# Altium schematic symbol library IntLib.SchLib: 161 symbols (part 2 of 3)
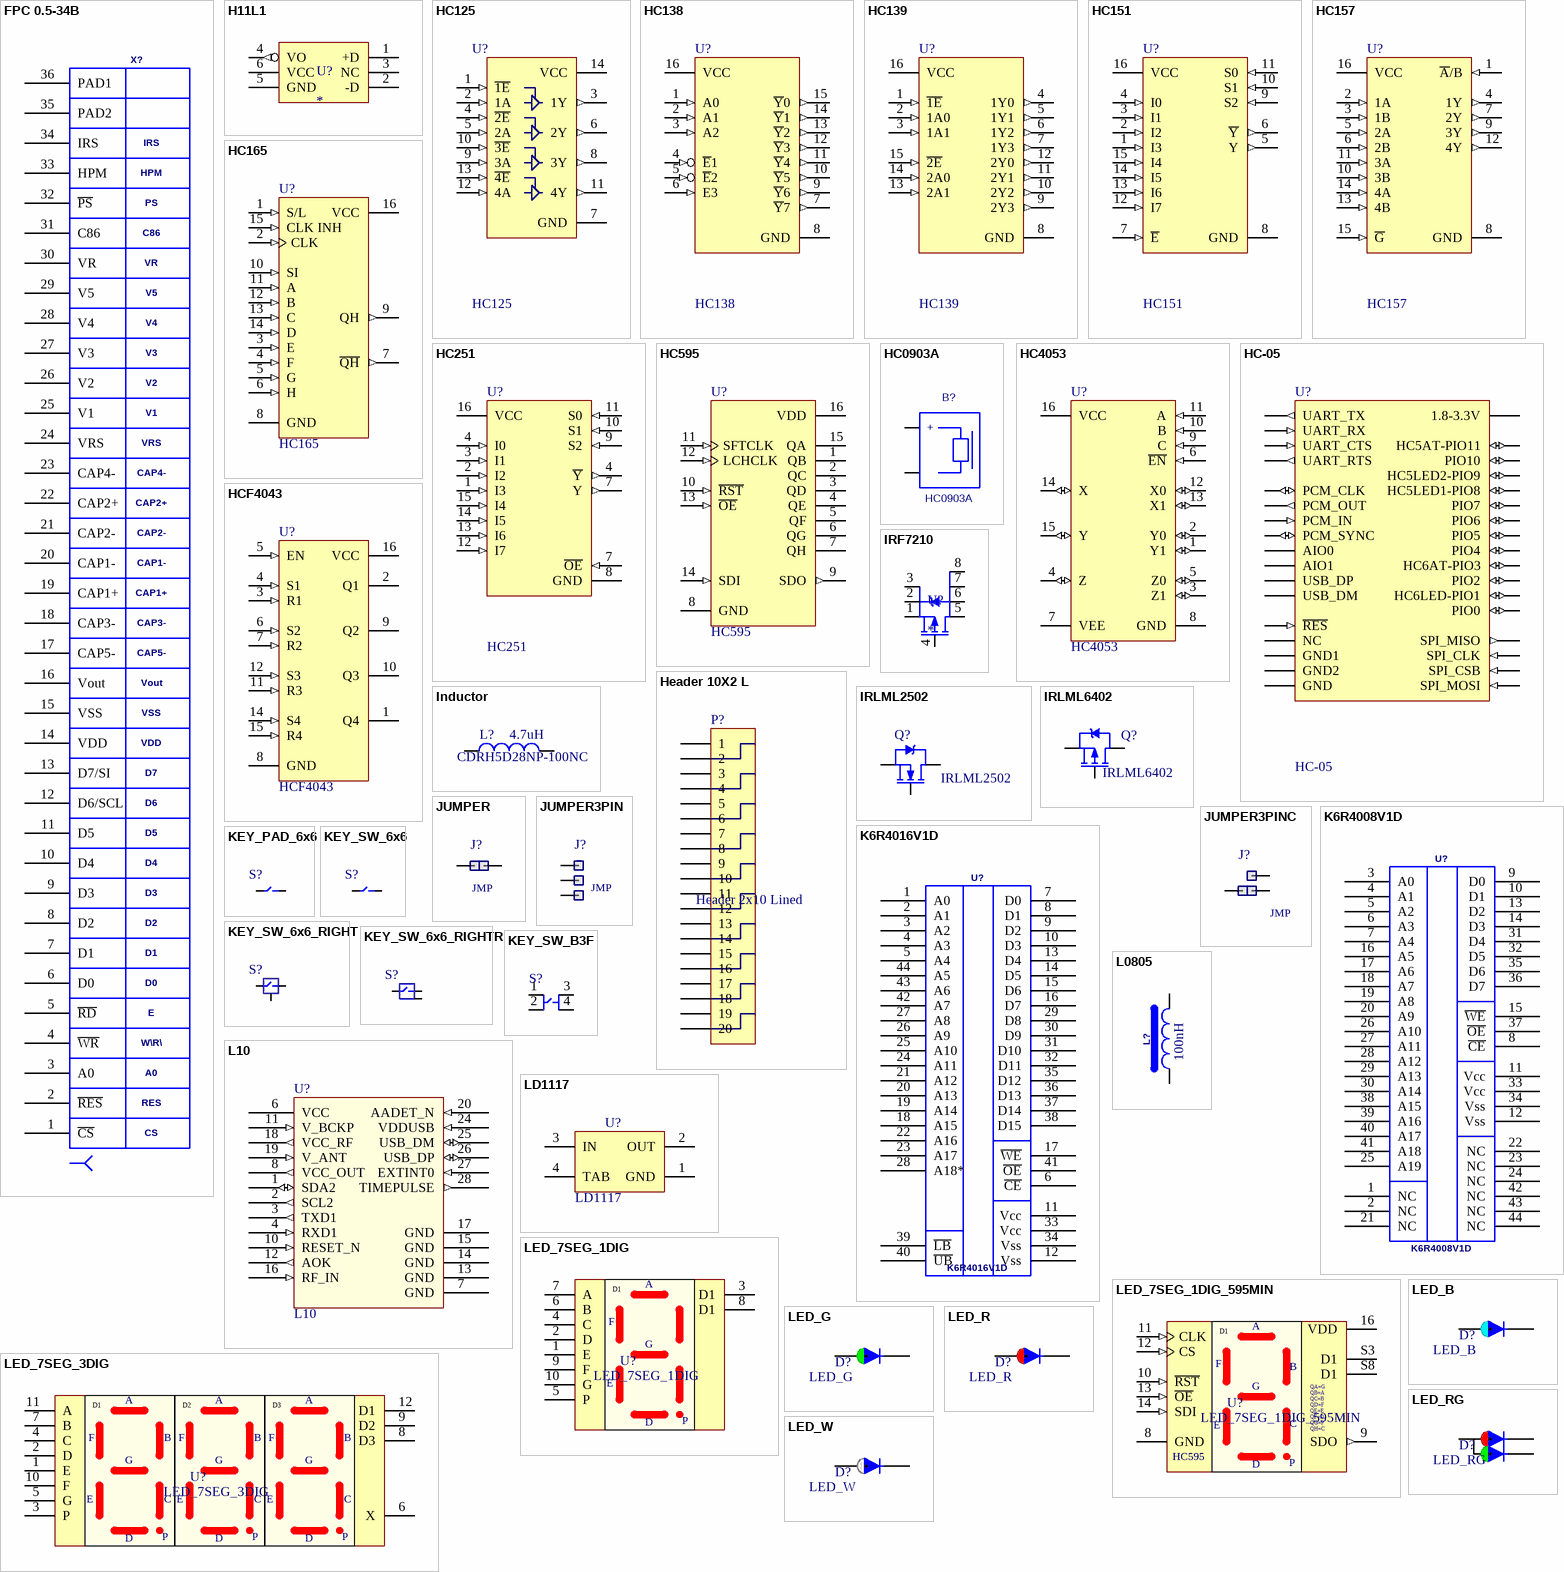
[diagram p9: symbols FPC 0.5-34B to LED_W]

## HC125
designator U?
Quad buffer/line driver 3-state; Published: 8-Jun-2000; LatestRevisionDate: 13-Apr-2006; LatestRevisionNote: IPC-7351 Footprint Added.; DatasheetVersion: Oct-1993; PackageVersion: May-1998; PackageReference: SO16; Publisher: Altium Limited; PackageDescription: 16-Pin Small Outline Integrated Circuit 1.27 mm Pitch; Code_IPC: SOIC127P600-16; ComponentLink1Description: Manufacturer Link; ComponentLink1URL: http://www.st.com/; ComponentLink2Description: Datasheet; ComponentLink2URL: http://www.st.com/stonline/products/literature/ds/7731/m74hc4053.pdf
footprint SO14-150
pins: 1 ~{1E} (in), 2 1A (in), 3 1Y (out), 4 ~{2E} (in), 5 2A (in), 6 2Y (out), 7 GND (power), 8 3Y (out), 9 3A (in), 10 ~{3E} (in), 11 4Y (out), 12 4A (in), 13 ~{4E} (in), 14 VCC (power)

## HC138
designator U?
Analog Multiplexer/Demultiplexer Triple 2-Channel; Published: 8-Jun-2000; LatestRevisionDate: 13-Apr-2006; LatestRevisionNote: IPC-7351 Footprint Added.; DatasheetVersion: Oct-1993; PackageVersion: May-1998; PackageReference: SO16; Publisher: Altium Limited; PackageDescription: 16-Pin Small Outline Integrated Circuit 1.27 mm Pitch; Code_IPC: SOIC127P600-16; ComponentLink1Description: Manufacturer Link; ComponentLink1URL: http://www.st.com/; ComponentLink2Description: Datasheet; ComponentLink2URL: http://www.st.com/stonline/products/literature/ds/7731/m74hc4053.pdf
footprint SO16-150
pins: 1 A0 (in), 2 A1 (in), 3 A2 (in), 4 ~{E}1 (in), 5 ~{E}2 (in), 6 E3 (in), 7 ~{Y}7 (out), 8 GND (power), 9 ~{Y}6 (out), 10 ~{Y}5 (out), 11 ~{Y}4 (out), 12 ~{Y}3 (out), 13 ~{Y}2 (out), 14 ~{Y}1 (out), 15 ~{Y}0 (out), 16 VCC (power)

## HC139
designator U?
Analog Multiplexer/Demultiplexer Triple 2-Channel; Published: 8-Jun-2000; LatestRevisionDate: 13-Apr-2006; LatestRevisionNote: IPC-7351 Footprint Added.; DatasheetVersion: Oct-1993; PackageVersion: May-1998; PackageReference: SO16; Publisher: Altium Limited; PackageDescription: 16-Pin Small Outline Integrated Circuit 1.27 mm Pitch; Code_IPC: SOIC127P600-16; ComponentLink1Description: Manufacturer Link; ComponentLink1URL: http://www.st.com/; ComponentLink2Description: Datasheet; ComponentLink2URL: http://www.st.com/stonline/products/literature/ds/7731/m74hc4053.pdf
footprint SO16-150
pins: 1 ~{1E} (in), 2 1A0 (in), 3 1A1 (in), 4 1Y0 (out), 5 1Y1 (out), 6 1Y2 (out), 7 1Y3 (out), 8 GND (power), 9 2Y3 (out), 10 2Y2 (out), 11 2Y1 (out), 12 2Y0 (out), 13 2A1 (in), 14 2A0 (in), 15 ~{2E} (in), 16 VCC (power)

## HC151
designator U?
Selector Multiplexer 2-Channel; Published: 8-Jun-2000; LatestRevisionDate: 13-Apr-2006; LatestRevisionNote: IPC-7351 Footprint Added.; DatasheetVersion: Oct-1993; PackageVersion: May-1998; PackageReference: SO16; Publisher: Altium Limited; PackageDescription: 16-Pin Small Outline Integrated Circuit 1.27 mm Pitch; Code_IPC: SOIC127P600-16; ComponentLink1Description: Manufacturer Link; ComponentLink1URL: http://www.st.com/; ComponentLink2Description: Datasheet; ComponentLink2URL: http://www.st.com/stonline/products/literature/ds/7731/m74hc4053.pdf
footprint SO16-150
pins: 1 I3 (in), 2 I2 (in), 3 I1 (in), 4 I0 (in), 5 Y (out), 6 ~{Y} (out), 7 ~{E} (in), 8 GND (power), 9 S2 (in), 10 S1 (in), 11 S0 (in), 12 I7 (in), 13 I6 (in), 14 I5 (in), 15 I4 (in), 16 VCC (power)

## HC157
designator U?
Selector Multiplexer 2-Channel; Published: 8-Jun-2000; LatestRevisionDate: 13-Apr-2006; LatestRevisionNote: IPC-7351 Footprint Added.; DatasheetVersion: Oct-1993; PackageVersion: May-1998; PackageReference: SO16; Publisher: Altium Limited; PackageDescription: 16-Pin Small Outline Integrated Circuit 1.27 mm Pitch; Code_IPC: SOIC127P600-16; ComponentLink1Description: Manufacturer Link; ComponentLink1URL: http://www.st.com/; ComponentLink2Description: Datasheet; ComponentLink2URL: http://www.st.com/stonline/products/literature/ds/7731/m74hc4053.pdf
footprint SO16-150
pins: 1 ~{A}/B (in), 2 1A (in), 3 1B (in), 4 1Y (out), 5 2A (in), 6 2B (in), 7 2Y (out), 8 GND (power), 9 3Y (out), 10 3B (in), 11 3A (in), 12 4Y (out), 13 4B (in), 14 4A (in), 15 ~{G} (in), 16 VCC (power)

## HC165
designator U?
8-Bit Parallel-Load Shift Register; Published: 8-Jun-2000; LatestRevisionDate: 13-Apr-2006; LatestRevisionNote: IPC-7351 Footprint Added.; DatasheetVersion: May-1997; PackageVersion: Jan-1998; PackageReference: D016; Publisher: Altium Limited; PackageDescription: 16-Pin Small Outline Integrated Circuit 1.27 mm Pitch; Code_IPC: SOIC127P600-16; ComponentLink1Description: Manufacturer Link; ComponentLink1URL: http://www.ti.com/; ComponentLink2Description: Datasheet; ComponentLink2URL: http://www-s.ti.com/sc/ds/sn74hc165.pdf
footprint SO16-150
pins: 1 S/L (in), 2 CLK (in), 3 E (in), 4 F (in), 5 G (in), 6 H (in), 7 ~{QH} (out), 8 GND (power), 9 QH (out), 10 SI (in), 11 A (in), 12 B (in), 13 C (in), 14 D (in), 15 CLK INH (in), 16 VCC (power)

## HC251
designator U?
8-Input Multiplexer with 3-state; Published: 8-Jun-2000; LatestRevisionDate: 13-Apr-2006; LatestRevisionNote: IPC-7351 Footprint Added.; DatasheetVersion: Oct-1993; PackageVersion: May-1998; PackageReference: SO16; Publisher: Altium Limited; PackageDescription: 16-Pin Small Outline Integrated Circuit 1.27 mm Pitch; Code_IPC: SOIC127P600-16; ComponentLink1Description: Manufacturer Link; ComponentLink1URL: http://www.st.com/; ComponentLink2Description: Datasheet; ComponentLink2URL: http://www.st.com/stonline/products/literature/ds/7731/m74hc4053.pdf
footprint SO16-150
pins: 1 I3 (in), 2 I2 (in), 3 I1 (in), 4 ~{Y} (out), 4 I0 (in), 7 Y (out), 7 ~{OE} (in), 8 GND (power), 9 S2 (in), 10 S1 (in), 11 S0 (in), 12 I7 (in), 13 I6 (in), 14 I5 (in), 15 I4 (in), 16 VCC (power)

## HC595
designator U?
8-Bit Serial-Input/Serial or Prallel-Output Shift Register with Latched 3-State Outputs; Published: 15-Apr-2002; LatestRevisionDate: 13-Apr-2006; LatestRevisionNote: IPC-7351 Footprint Added.; DatasheetVersion: Mar-2000; PackageVersion: Oct-1999; PackageReference: 751B-05; Publisher: Altium Limited; PackageDescription: 16-Pin Small Outline Integrated Circuit 1.27 mm Pitch; Code_JEDEC: MS-012-AC; Code_IPC: SOIC127P600-16; ComponentLink1Description: Manufacturer Link; ComponentLink1URL: http://www.onsemi.com/; ComponentLink2Description: Datasheet; ComponentLink2URL: http://www.onsemi.com/pub/Collateral/MC74HC595A-D.PDF
footprint SO16-150
pins: 1 QB (hiz), 2 QC (hiz), 3 QD (hiz), 4 QE (hiz), 5 QF (hiz), 6 QG (hiz), 7 QH (hiz), 8 GND (power), 9 SDO (out), 10 ~{RST} (in), 11 SFTCLK (in), 12 LCHCLK (in), 13 ~{OE} (in), 14 SDI (in), 15 QA (hiz), 16 VDD (power)

## HC0903A
designator B?
Value: *
footprint HC09A (Footprint not found)
pins: 1, 2
text: +

## HC4053
designator U?
Analog Multiplexer/Demultiplexer Triple 2-Channel; Published: 8-Jun-2000; LatestRevisionDate: 13-Apr-2006; LatestRevisionNote: IPC-7351 Footprint Added.; DatasheetVersion: Oct-1993; PackageVersion: May-1998; PackageReference: SO16; Publisher: Altium Limited; PackageDescription: 16-Pin Small Outline Integrated Circuit 1.27 mm Pitch; Code_IPC: SOIC127P600-16; ComponentLink1Description: Manufacturer Link; ComponentLink1URL: http://www.st.com/; ComponentLink2Description: Datasheet; ComponentLink2URL: http://www.st.com/stonline/products/literature/ds/7731/m74hc4053.pdf
footprint SO16-150
pins: 1 Y1 (io), 2 Y0 (io), 3 Z1 (io), 4 Z (io), 5 Z0 (io), 6 ~{EN} (in), 7 VEE (power), 8 GND (power), 9 C (in), 10 B (in), 11 A (in), 12 X0 (io), 13 X1 (io), 14 X (io), 15 Y (io), 16 VCC (power)

## HC-05
designator U?
footprint HC-05 (BT HC-05 WAVESEN)
pins: 3.3V 1.8-3.3V, AIO0, AIO1, CLK SPI_CLK (in), CSB SPI_CSB (in), CTS UART_CTS (in), GND, GND1, GND2, MISO SPI_MISO (out), MOSI SPI_MOSI (in), NC, PCM_CLK (io), PCM_IN (in), PCM_OUT (out), PCM_SYNC (io), PIO0 (io), PIO1 HC6LED-PIO1 (io), PIO2 (io), PIO3 HC6AT-PIO3 (io), PIO4 (io), PIO5 (io), PIO6 (io), PIO7 (io), PIO8 HC5LED1-PIO8 (io), PIO9 HC5LED2-PIO9 (io), PIO10 (io), PIO11 HC5AT-PIO11 (io), RES ~{RES} (in), RTS UART_RTS (out), RX UART_RX (in), TX UART_TX (out), USB_DM, USB_DP

## HCF4043
designator U?
Quad 3-State R-S Latch; Note: Pin 13 is not connected and not drawn.; Published: 8-Jun-2000; LatestRevisionDate: 13-Apr-2006; LatestRevisionNote: IPC-7351 Footprint Added.; DatasheetVersion: Jun-1989; PackageVersion: May-1998; PackageReference: SO16; Publisher: Altium Limited; PackageDescription: 16-Pin Small Outline Integrated Circuit 1.27 mm Pitch; Code_IPC: SOIC127P600-16; ComponentLink1Description: Manufacturer Link; ComponentLink1URL: http://www.st.com/
footprint SO16-150
simulation model HCF4043 (SIMCODE)
pins: 1 Q4 (hiz), 2 Q1 (hiz), 3 R1 (in), 4 S1 (in), 5 EN (in), 6 S2 (in), 7 R2 (in), 8 GND (power), 9 Q2 (hiz), 10 Q3 (hiz), 11 R3 (in), 12 S3 (in), 14 S4 (in), 15 R4 (in), 16 VCC (power)

## Header 10X2 L
designator P?, comment Header 2x10 Lined
Header, 10-Pin, Dual row; LatestRevisionDate: 17-Jul-2002; LatestRevisionNote: Re-released for DXP Platform.; Publisher: Altium Limited
footprint HDR2X10 (Connector; Header; 10x2 Position)
signal-integrity model Connector
pins: 1, 2, 3, 4, 5, 6, 7, 8, 9, 10, 11, 12, 13, 14, 15, 16, 17, 18, 19, 20

## Inductor
designator L?  value 4.7uH  Type0: CDRH5D28NP-100NC  (hidden comment: Inductor)
Code_IEC: 1005; Published: 8-Jun-2000; LatestRevisionDate: 29-May-2009; LatestRevisionNote: IPC-7351 Footprint Added.; PackageReference: 0402-A; Publisher: Altium Limited; PackageDescription: Chip Inductor; Code_JEITA: 0402
footprint LQH3NP (Murata)
footprint INDC1608L (Chip Inductor, Body 1.6x0.8mm, IPC High Density)
footprint INDC2012L (Chip Inductor, Body 2.0x1.2mm, IPC High Density)
footprint INDC0603L (Chip Inductor, Body 0.6x0.3mm, IPC High Density)
footprint INDC3216AL (Chip Inductor, Body 3.2x1.6mm, IPC High Density)
footprint INDC4532L (Chip Inductor, Body 4.5x3.2mm, IPC High Density)
simulation model INDUCTOR (Inductor)
signal-integrity model Inductor
footprint INDC5750M (Chip Inductor, Body 5.7x5.0mm, IPC Low Density)
footprint SCB0704
footprint CDRH74 (CDRH74 or SCB0704)
footprint CDRH5D28
pins: 1, 2

## IRF7210
designator U?
Mosfet
footprint SO8-150
pins: 1 S, 2 S, 3 S, 4 G, 5 D, 6 D, 7 D, 8 D

## IRLML2502
designator Q?
HEXFET Power MOSFET; Published: 8-Jun-2000; LatestRevisionDate: 17-Jul-2002; LatestRevisionNote: Re-released for DXP Platform.; DatasheetVersion: Aug-1997; PackageReference: SOT-23; Publisher: Altium Limited; PackageDescription: SOT-23; 3 Leads; Body 3.1 x 2.5 mm, inc. leads (LxW max); ComponentLink1Description: Manufacturer Link; ComponentLink1URL: http://www.irf.com/; ComponentLink2Description: Datasheet; ComponentLink2URL: http://www.irf.com/product-info/datasheets/data/irlml2402.pdf
footprint SOT23-1 (SOT23, 3-Leads, Body 2.9x1.3mm, Pitch 0.95mm, Lead Span 2.5mm)
simulation model IRLML2402 (SUBCKT)
pins: 1 G, 2 S, 3 D

## IRLML6402
designator Q?
HEXFET Power MOSFET; Published: 17-Sep-2003; DatasheetVersion: 2-Jul-2001; PackageVersion: Jul-2001; PackageReference: Micro3; Publisher: Altium Limited; PackageDescription: SOT-23; 3 Leads; Body 3.0 x 2.5 mm, inc. leads (LxW max); ComponentLink1Description: Manufacturer Link; ComponentLink1URL: http://www.irf.com/; ComponentLink2Description: Datasheet; ComponentLink2URL: http://www.irf.com/product-info/datasheets/data/IRLML6401.pdf
footprint SOT23-1 (SOT23, 3-Leads, Body 2.9x1.3mm, Pitch 0.95mm, Lead Span 2.5mm)
pins: 1 G, 2 S, 3 D

## JUMPER
designator J?  value JMP  (hidden comment: JUMPER)
Manufacturer: Generic Components; Class I: Oscillator; Class II: Crystal Oscillator; Published: 8-Jun-2000; Revision: July-2002: Re-released for DXP Platform.; Publisher: Altium Limited
footprint HDR1X2 (Footprint not found)
pins: 1 OSC1, 2 OSC2

## JUMPER3PIN
designator J?  value JMP  (hidden comment: JUMPER3PIN)
Jumper; Manufacturer: Generic Components; Class I: Oscillator; Class II: Crystal Oscillator; Published: 8-Jun-2000; Revision: July-2002: Re-released for DXP Platform.; Publisher: Altium Limited
footprint HDR1X3 (Footprint not found)
pins: 1 OSC1, 2 OSC2, 3 OSC3

## JUMPER3PINC
designator J?  value JMP  (hidden comment: JUMPER3PINC)
Jumper 3-PIN Central; Manufacturer: Generic Components; Class I: Oscillator; Class II: Crystal Oscillator; Published: 8-Jun-2000; Revision: July-2002: Re-released for DXP Platform.; Publisher: Altium Limited
footprint HDR1X3 (Footprint not found)
pins: 1 OSC1, 2 OSC2, 3 OSC3

## K6R4008V1D
designator U?
Value: *
footprint TSOP2-44
pins: 1 NC, 2 NC, 3 A0, 4 A1, 5 A2, 6 A3, 7 A4, 8 ~{CE}, 9 D0, 10 D1, 11 Vcc, 12 Vss, 13 D2, 14 D3, 15 ~{WE}, 16 A5, 17 A6, 18 A7, 19 A8, 20 A9, 21 NC, 22 NC, 23 NC, 24 NC, 25 A19, 26 A10, 27 A11, 28 A12, 29 A13, 30 A14, 31 D4, 32 D5, 33 Vcc, 34 Vss, 35 D6, 36 D7, 37 ~{OE}, 38 A15, 39 A16, 40 A17, 41 A18, 42 NC, 43 NC, 44 NC

## K6R4016V1D
designator U?
Value: *
footprint TSOP2-44
pins: 1 A0, 2 A1, 3 A2, 4 A3, 5 A4, 6 ~{CE}, 7 D0, 8 D1, 9 D2, 10 D3, 11 Vcc, 12 Vss, 13 D4, 14 D5, 15 D6, 16 D7, 17 ~{WE}, 18 A15, 19 A14, 20 A13, 21 A12, 22 A16, 23 A17, 24 A11, 25 A10, 26 A9, 27 A8, 28 A18*, 29 D8, 30 D9, 31 D10, 32 D11, 33 Vcc, 34 Vss, 35 D12, 36 D13, 37 D14, 38 D15, 39 ~{LB}, 40 ~{UB}, 41 ~{OE}, 42 A7, 43 A6, 44 A5

## KEY_PAD_6x6
designator S?  (value not drawn)
footprint KEY_PAD_6x6 (Key OAD 6x6 mm Diametr)
pins: 1, 2

## KEY_SW_6x6
designator S?  (value not drawn)
footprint SWT6x6
pins: A, B

## KEY_SW_6x6_RIGHT
designator S?  (value not drawn)
footprint SWT6x6R
pins: 1, 2, GND

## KEY_SW_6x6_RIGHTR
designator S?  (value not drawn)
footprint SWT6x6R
pins: 1, 2, GND

## KEY_SW_B3F
designator S?  (value not drawn)
footprint SWT12x12_B3F
pins: 1 A1, 2 A2, 3 B1, 4 B2

## L10
designator U?
Quectel L10 GPS Module
footprint Lxx Series GPS
pins: 1 SDA2 (io), 2 SCL2 (out), 3 TXD1 (out), 4 RXD1 (in), 6 VCC (power), 7 GND (power), 8 VCC_OUT (out), 10 RESET_N (in), 11 V_BCKP (in), 12 AOK (out), 13 GND (power), 14 GND (power), 15 GND (power), 16 RF_IN (in), 17 GND (power), 18 VCC_RF (out), 19 V_ANT (in), 20 AADET_N (in), 24 VDDUSB (in), 25 USB_DM (io), 26 USB_DP (io), 27 EXTINT0 (in), 28 TIMEPULSE (out)

## L0805
designator L?  value 100nH  (hidden comment: L0805)
footprint R2012_CAP (0805 Capacitor)
pins: 1, 2

## LD1117
designator U?
800mA Low-Dropout Linear Regulator; PartNumber: LM1117IMP-3.3; Manufacturer: National Semiconductor; CompType: LDO IC; PackageTopMarking: XYTT*N05B; PowerWise: N; Published: 4-Dec-2008; DatasheetVersion: Apr-2006; PackageVersion: revB, Apr-2003; PackageReference: MP04A; Publisher: Altium Limited; PackageDescription: Molded SOT-223, 6.50 x 3.56 x 1.6mm Body, 4 Lead, 2.3mm Pitch; RoHS: O; PinCount: 4; DigiKeyPartNumber: LM1117IMP-3.3CT-ND; Code_JEDEC: TO-261-AA; Code_IPC: SOT223-4; ComponentLink1Description: LM1117 Datasheet; ComponentLink1URL: http://www.national.com/ds/LM/LM1117.pdf; ComponentLink2Description: LM1117 Web Page; ComponentLink2URL: http://www.national.com/pf/LM/LM1117.html; ComponentLink3Description: MP04A Package Page; ComponentLink3URL: http://www.national.com/packaging/folders/mp04a.html
footprint SOT223 (SOT-223/SC-73; 4 Leads; Body 6.7 x 7.3 mm, inc. leads (LxW max))
pins: 1 GND, 2 OUT, 3 IN, 4 TAB

## LED_7SEG_1DIG
designator U?
LED 7SEG 1DIG; Published: 8-Jun-2000; LatestRevisionDate: 17-Jul-2002; LatestRevisionNote: Re-released for DXP Platform.; DatasheetDocument: Dec-1997; PackageReference: D-64; Publisher: Altium Limited; ComponentLink1Description: Manufacturer Link; ComponentLink1URL: http://www.irf.com/; ComponentLink2Description: Datasheet; ComponentLink2URL: http://www.irf.com/product-info/datasheets/data/10mq040n.pdf
footprint LEDSEG_E30561_1R (LED 7-SEG 3-DIGIT)
pins: 1 E, 2 D, 3 D1, 4 C, 5 P, 6 B, 7 A, 8 D1, 9 F, 10 G

## LED_7SEG_1DIG_595MIN
designator U?
LED 7SEG 1DIG; Published: 8-Jun-2000; LatestRevisionDate: 17-Jul-2002; LatestRevisionNote: Re-released for DXP Platform.; DatasheetDocument: Dec-1997; PackageReference: D-64; Publisher: Altium Limited; ComponentLink1Description: Manufacturer Link; ComponentLink1URL: http://www.irf.com/; ComponentLink2Description: Datasheet; ComponentLink2URL: http://www.irf.com/product-info/datasheets/data/10mq040n.pdf
footprint LEDSEG_E30561_1R_595 (LED 7-SEG 3-DIGIT + 595)
footprint LEDSEG_E30561_1R_595RES (LED 7-SEG 3-DIGIT + 595 + RES)
footprint LED_7SEGx1_595_200
footprint LED_7SEGx1_595_254
pins: 8 GND (power), 9 SDO (out), 10 ~{RST} (in), 11 CLK (in), 12 CS (in), 13 ~{OE} (in), 14 SDI (in), 16 VDD (power), S3 D1, S8 D1
text: A; F; B; G; E; C; QA=G / QB=A / QC=B / QD=F / QE=E / QF=D / QG=P / QH=C; HC595; D; P

## LED_7SEG_3DIG
designator U?
LED 7SEG 3DIG; Published: 8-Jun-2000; LatestRevisionDate: 17-Jul-2002; LatestRevisionNote: Re-released for DXP Platform.; DatasheetDocument: Dec-1997; PackageReference: D-64; Publisher: Altium Limited; ComponentLink1Description: Manufacturer Link; ComponentLink1URL: http://www.irf.com/; ComponentLink2Description: Datasheet; ComponentLink2URL: http://www.irf.com/product-info/datasheets/data/10mq040n.pdf
footprint LEDSEG_E30561_3R (LED 7-SEG 3-DIGIT)
footprint LEDSEG_E30561_3G (LED 7-SEG 3-DIGIT)
footprint LEDSEG_E30561_3Y (LED 7-SEG 3-DIGIT)
pins: 1 E, 2 D, 3 P, 4 C, 5 G, 6 X, 7 B, 8 D3, 9 D2, 10 F, 11 A, 12 D1

## LED_B
designator D?
Published: 8-Jun-2000; LatestRevisionDate: 17-Jul-2002; LatestRevisionNote: Re-released for DXP Platform.; DatasheetDocument: Dec-1997; PackageReference: D-64; Publisher: Altium Limited; ComponentLink1Description: Manufacturer Link; ComponentLink1URL: http://www.irf.com/; ComponentLink2Description: Datasheet; ComponentLink2URL: http://www.irf.com/product-info/datasheets/data/10mq040n.pdf
footprint R2012_LEDB
footprint LED3B
pins: 1 K, 2 A

## LED_G
designator D?
Published: 8-Jun-2000; LatestRevisionDate: 17-Jul-2002; LatestRevisionNote: Re-released for DXP Platform.; DatasheetDocument: Dec-1997; PackageReference: D-64; Publisher: Altium Limited; ComponentLink1Description: Manufacturer Link; ComponentLink1URL: http://www.irf.com/; ComponentLink2Description: Datasheet; ComponentLink2URL: http://www.irf.com/product-info/datasheets/data/10mq040n.pdf
footprint R2012_LEDG
footprint LED3G
pins: 1 K, 2 A

## LED_R
designator D?
Published: 8-Jun-2000; LatestRevisionDate: 17-Jul-2002; LatestRevisionNote: Re-released for DXP Platform.; DatasheetDocument: Dec-1997; PackageReference: D-64; Publisher: Altium Limited; ComponentLink1Description: Manufacturer Link; ComponentLink1URL: http://www.irf.com/; ComponentLink2Description: Datasheet; ComponentLink2URL: http://www.irf.com/product-info/datasheets/data/10mq040n.pdf
footprint R2012_LEDR
footprint LED3R
pins: 1 K, 2 A

## LED_RG
designator D?
Published: 8-Jun-2000; LatestRevisionDate: 17-Jul-2002; LatestRevisionNote: Re-released for DXP Platform.; DatasheetDocument: Dec-1997; PackageReference: D-64; Publisher: Altium Limited; ComponentLink1Description: Manufacturer Link; ComponentLink1URL: http://www.irf.com/; ComponentLink2Description: Datasheet; ComponentLink2URL: http://www.irf.com/product-info/datasheets/data/10mq040n.pdf
footprint LED3RG
pins: 1 K, 2 A, 3 K

## LED_W
designator D?
Published: 8-Jun-2000; LatestRevisionDate: 17-Jul-2002; LatestRevisionNote: Re-released for DXP Platform.; DatasheetDocument: Dec-1997; PackageReference: D-64; Publisher: Altium Limited; ComponentLink1Description: Manufacturer Link; ComponentLink1URL: http://www.irf.com/; ComponentLink2Description: Datasheet; ComponentLink2URL: http://www.irf.com/product-info/datasheets/data/10mq040n.pdf
footprint R2012_LEDW
footprint LED3W (Footprint not found)
pins: 1 K, 2 A

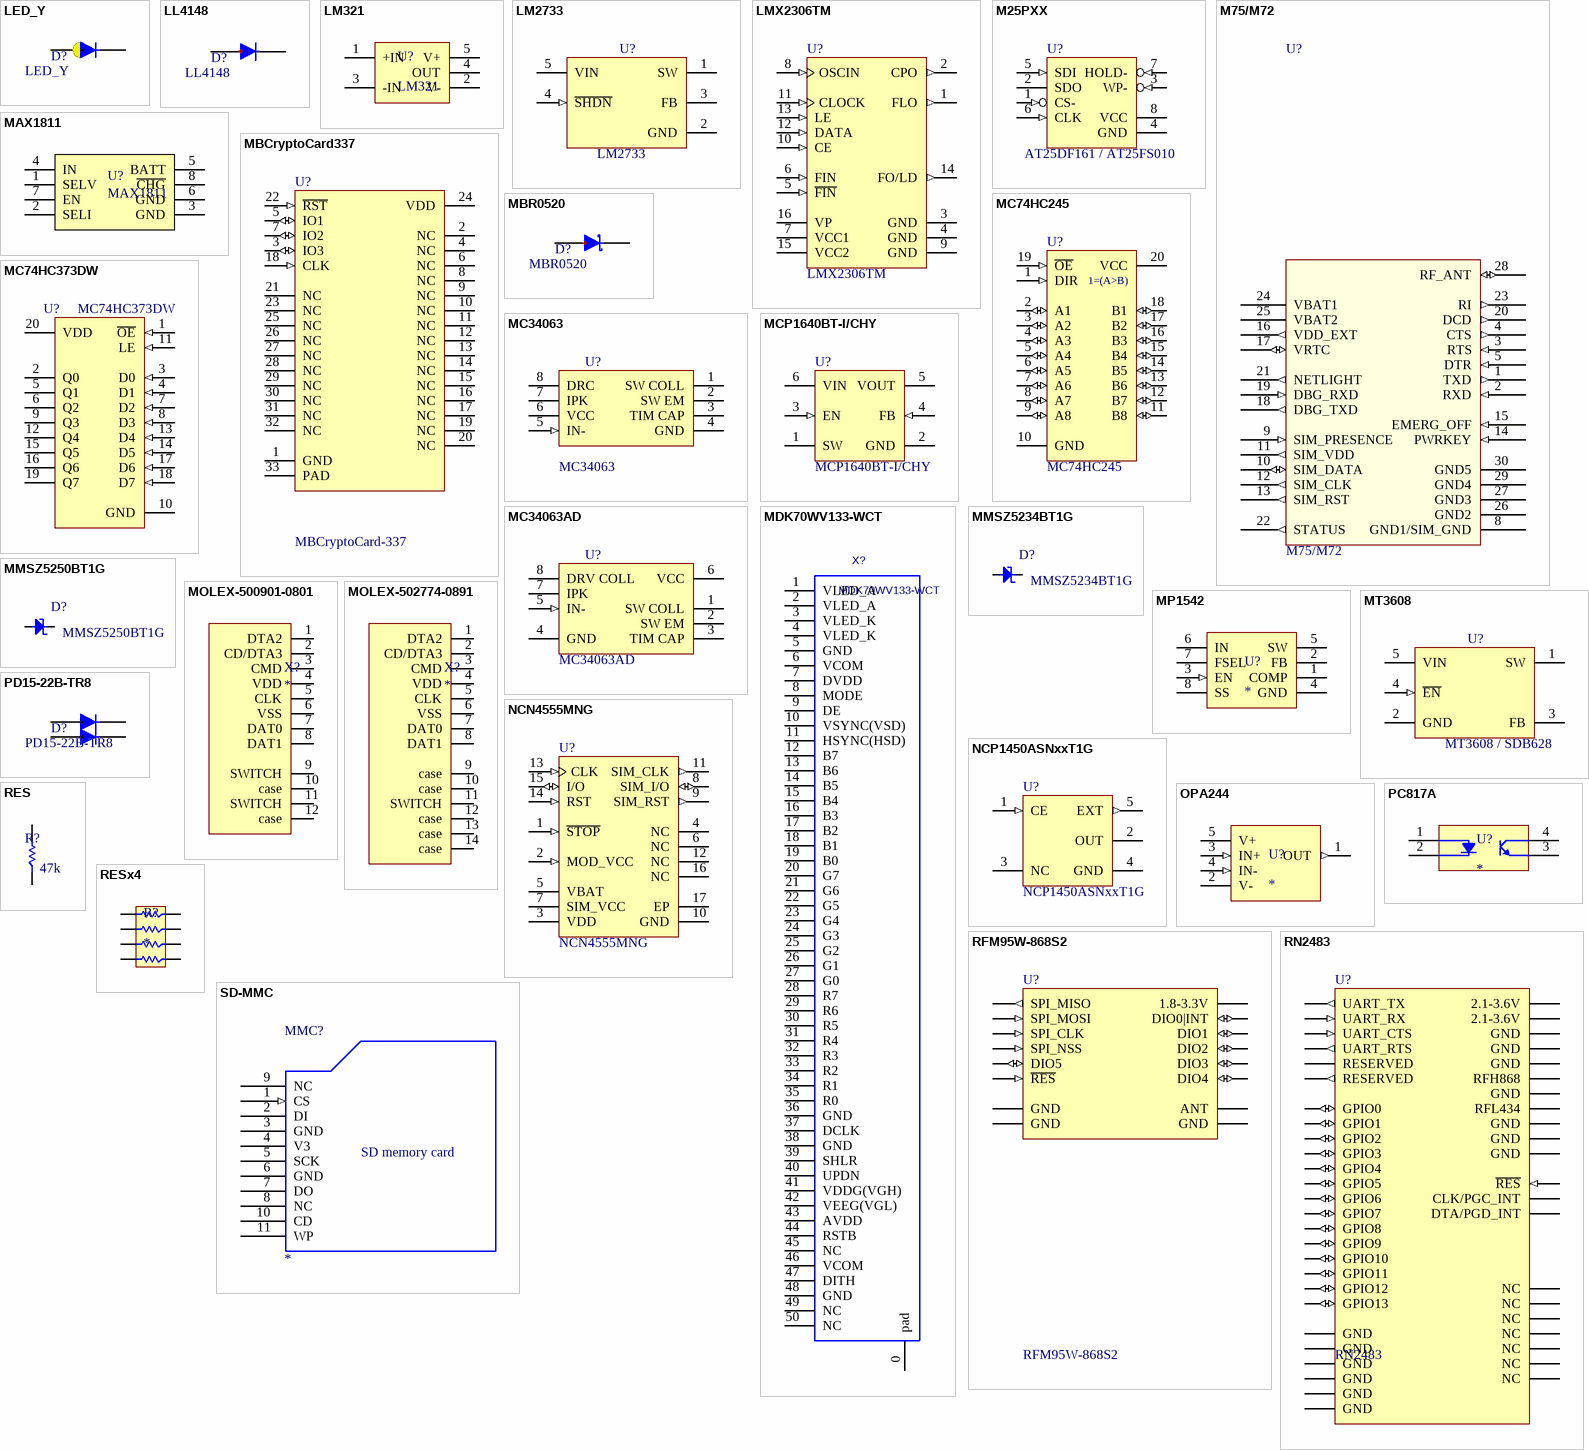
[diagram p3: symbols LED_Y to SD-MMC]

## LED_Y
designator D?
Published: 8-Jun-2000; LatestRevisionDate: 17-Jul-2002; LatestRevisionNote: Re-released for DXP Platform.; DatasheetDocument: Dec-1997; PackageReference: D-64; Publisher: Altium Limited; ComponentLink1Description: Manufacturer Link; ComponentLink1URL: http://www.irf.com/; ComponentLink2Description: Datasheet; ComponentLink2URL: http://www.irf.com/product-info/datasheets/data/10mq040n.pdf
footprint R2012_LEDY
footprint LED3Y
pins: 1 K, 2 A

## LL4148
designator D?
Diode Fast; Published: 8-Jun-2000; LatestRevisionDate: 17-Jul-2002; LatestRevisionNote: Re-released for DXP Platform.; DatasheetDocument: Dec-1997; PackageReference: D-64; Publisher: Altium Limited; ComponentLink1Description: Manufacturer Link; ComponentLink1URL: http://www.irf.com/; ComponentLink2Description: Datasheet; ComponentLink2URL: http://www.irf.com/product-info/datasheets/data/10mq040n.pdf
footprint SOD123 (SOD-123; 2 Leads; Body 2.7 x 1.6 mm, (LxW))
footprint SOD80
pins: 1 K, 2 A

## LM321
designator U?
footprint SOT23-5D (SOT23, 5-Leads, Body 2.9x1.3mm, Pitch 0.95mm, Lead Span 2.5mm)
pins: 1 +IN, 2 V-, 3 -IN, 4 OUT, 5 V+

## LM2733
designator U?
Published: 29-Jan-2009; DatasheetVersion: revA, Aug-2007; PackageVersion: revAW, Oct-2008; PackageReference: SOT-23-OT5; Publisher: Altium Limited; PackageDescription: 5-Lead Plastic Small Outline Transistor (OT) [SOT-23]; Code_IPC: SOT23-5; ComponentLink1Description: Manufacturer Link; ComponentLink1URL: http://www.microchip.com; ComponentLink2Description: Datasheet; ComponentLink2URL: http://ww1.microchip.com/downloads/en/DeviceDoc/22070a.pdf; ComponentLink3Description: Packaging Specification; ComponentLink3URL: http://ww1.microchip.com/downloads/en/PackagingSpec/00049AW.pdf
footprint SOT23-5D (Footprint not found)
pins: 1 SW (power), 2 GND (power), 3 FB (power), 4 ~{SHDN} (in), 5 VIN (power)

## LMX2306TM
designator U?
550 MHz PLLatinum Low Power Frequency Synthesizer for RF Personal Communications, 16-pin TSSOP; Manufacturer: National Semiconductor; PackageTopMarking: NSUZXYTT*LMX2306*TMDD; PowerWise: N; CompType: Interface IC; Published: 4-Dec-2008; DatasheetVersion: Mar-2004; PackageVersion: revD, Jun-2003; PackageReference: MTC16; Publisher: Altium Limited; PackageDescription: Molded TSSOP, Jedec, 5 x 4.4 x 0.9mm Body, 16 Lead, 0.65mm Pitch; Supplier 1: Farnell; Supplier Part Number 1: 9779140; PartNumber: LMX2306TM; RoHS: O; PinCount: 16; Code_JEDEC: MO-153-AB; ComponentLink1Description: LMX2306 Datasheet; ComponentLink1URL: http://www.national.com/ds/LM/LMX2306.pdf; ComponentLink2Description: LMX2306 Web Page; ComponentLink2URL: http://www.national.com/pf/LM/LMX2306.html; ComponentLink3Description: MTC16 Package Page; ComponentLink3URL: http://www.national.com/packaging/folders/mtc16.html
footprint TSSOP16 (Shrink Small Outline; 16 Leads; Body Width 4.4 mm; Pitch 0.65 mm)
pins: 1 FLO (out), 2 CPO (out), 3 GND (power), 4 GND (power), 5 ~{FIN} (in), 6 FIN (in), 7 VCC1 (power), 8 OSCIN (in), 9 GND (power), 10 CE (in), 11 CLOCK (in), 12 DATA (in), 13 LE (in), 14 FO/LD (out), 15 VCC2 (power), 16 VP (power)

## M25PXX
designator U?  Type: AT25DF161 / AT25FS010  (hidden comment: M25PXX)
FRAM SPI
footprint SO8-150
pins: 1 CS- (in), 2 SDO, 3 WP- (in), 4 GND (power), 5 SDI (in), 6 CLK (in), 7 HOLD- (in), 8 VCC (power)

## M75/M72
designator U?
footprint M75 (quectel v1.0)
pins: 1 TXD (out), 2 RXD (in), 3 RTS (in), 4 CTS (out), 5 DTR (in), 8 GND1/SIM_GND (power), 9 SIM_PRESENCE (in), 10 SIM_DATA (io), 11 SIM_VDD (out), 12 SIM_CLK (out), 13 SIM_RST (out), 14 PWRKEY (in), 15 EMERG_OFF (in), 16 VDD_EXT (out), 17 VRTC (io), 18 DBG_TXD (out), 19 DBG_RXD (in), 20 DCD (out), 21 NETLIGHT (out), 22 STATUS (out), 23 RI (out), 24 VBAT1 (power), 25 VBAT2 (power), 26 GND2 (power), 27 GND3 (power), 28 RF_ANT (io), 29 GND4 (power), 30 GND5 (power)

## MAX1811
designator U?
footprint SO8-150
pins: 1 SELV, 2 SELI, 3 GND, 4 IN, 5 BATT, 6 GND, 7 EN, 8 ~{CHG}

## MBCryptoCard337
designator U?, comment MBCryptoCard-337
Crypto Card 337 (SAM MODULE ANALOG)
footprint QFN32 (Footprint not found)
pins: 1 GND (power) "3.0-3.6?V Power Supply Voltage Input. 3.3?V Voltage Regulator Output. See Section 9.", 2 NC "These pins should be left unconnected or tied to VDD.", 3 IO3 (io) "This pin is driven high when the CP2101 enters the USB suspend state.", 4 NC "These pins should be left unconnected or tied to VDD.", 5 IO1 (io) "This pin is driven high when the CP2101 enters the USB suspend state.", 6 NC "These pins should be left unconnected or tied to VDD.", 7 IO2 (io) "This pin is driven high when the CP2101 enters the USB suspend state.", 8 NC "These pins should be left unconnected or tied to VDD.", 9 NC "These pins should be left unconnected or tied to VDD.", 10 NC "These pins should be left unconnected or tied to VDD.", 11 NC "These pins should be left unconnected or tied to VDD.", 12 NC "These pins should be left unconnected or tied to VDD.", 13 NC "These pins should be left unconnected or tied to VDD.", 14 NC "These pins should be left unconnected or tied to VDD.", 15 NC "These pins should be left unconnected or tied to VDD.", 16 NC "These pins should be left unconnected or tied to VDD.", 17 NC "These pins should be left unconnected or tied to VDD.", 18 CLK (in) "These pins should be left unconnected or tied to VDD.", 19 NC "These pins should be left unconnected or tied to VDD.", 20 NC "These pins should be left unconnected or tied to VDD.", 21 NC "These pins should be left unconnected or tied to VDD.", 22 ~{RST} (in) "Device Reset. Open-drain output of internal POR or VDD monitor. An external source can initiate a system reset by driving this pin low for at least 15us.", 23 NC "These pins should be left unconnected or tied to VDD.", 24 VDD (power) "3.0-3.6?V Power Supply Voltage Input. 3.3?V Voltage Regulator Output. See Section 9.", 25 NC "These pins should be left unconnected or tied to VDD.", 26 NC "These pins should be left unconnected or tied to VDD.", 27 NC "These pins should be left unconnected or tied to VDD.", 28 NC "These pins should be left unconnected or tied to VDD.", 29 NC "These pins should be left unconnected or tied to VDD.", 30 NC "These pins should be left unconnected or tied to VDD.", 31 NC "These pins should be left unconnected or tied to VDD.", 32 NC "These pins should be left unconnected or tied to VDD.", 33 PAD (power) "3.0-3.6?V Power Supply Voltage Input. 3.3?V Voltage Regulator Output. See Section 9."

## MBR0520
designator D?
Schottky Rectifier; Published: 8-Jun-2000; LatestRevisionDate: 17-Jul-2002; LatestRevisionNote: Re-released for DXP Platform.; DatasheetDocument: Dec-1997; PackageReference: D-64; Publisher: Altium Limited; ComponentLink1Description: Manufacturer Link; ComponentLink1URL: http://www.irf.com/; ComponentLink2Description: Datasheet; ComponentLink2URL: http://www.irf.com/product-info/datasheets/data/10mq040n.pdf
footprint SOD123 (SOD-123; 2 Leads; Body 2.7 x 1.6 mm, (LxW))
pins: 1 A, 2 K

## MC74HC245
designator U?
Octal 3-State Non-Inverting Bus Transceiver with LSTTL-Compatible Inputs; Published: 15-Apr-2002; LatestRevisionDate: 13-Apr-2006; LatestRevisionNote: IPC-7351 Footprint Added.; DatasheetVersion: Mar-2000; PackageReference: 751D-05; Publisher: Altium Limited; PackageDescription: 20-Pin Small Outline Integrated Circuit 1.27 mm Pitch; ComponentLink1Description: Manufacturer Link; ComponentLink1URL: http://www.onsemi.com/; ComponentLink2Description: Datasheet; ComponentLink2URL: http://www.onsemi.com/pub/Collateral/MC74HCT245A-D.PDF
footprint SO20-300
pins: 1 DIR (in), 2 A1 (io), 3 A2 (io), 4 A3 (io), 5 A4 (io), 6 A5 (io), 7 A6 (io), 8 A7 (io), 9 A8 (io), 10 GND (power), 11 B8 (io), 12 B7 (io), 13 B6 (io), 14 B5 (io), 15 B4 (io), 16 B3 (io), 17 B2 (io), 18 B1 (io), 19 ~{OE} (in), 20 VCC (power)
text: 1=(A>B)

## MC74HC373DW
designator U?
Octal 3-State Non-Inverting Transparent Latch; Published: 17-Jul-2002; LatestRevisionDate: 13-Apr-2006; LatestRevisionNote: IPC-7351 Footprint Added.; DatasheetVersion: 1989; PackageReference: 751D-03; Publisher: Altium Limited; PackageDescription: 20-Pin Small Outline Integrated Circuit 1.27 mm Pitch; ComponentLink1Description: Manufacturer Link; ComponentLink1URL: http://www.onsemi.com/site/products/parametrics/0,4446,339,00.html
footprint SO20-300
pins: 1 ~{OE} (in), 2 Q0 (hiz), 3 D0 (in), 4 D1 (in), 5 Q1 (hiz), 6 Q2 (hiz), 7 D2 (in), 8 D3 (in), 9 Q3 (hiz), 10 GND (power), 11 LE (in), 12 Q4 (hiz), 13 D4 (in), 14 D5 (in), 15 Q5 (hiz), 16 Q6 (hiz), 17 D6 (in), 18 D7 (in), 19 Q7 (hiz), 20 VDD (power)

## MC34063
designator U?
DC-to-DC Converter Control Circuit; Published: 15-Apr-2002; LatestRevisionDate: 13-Apr-2006; LatestRevisionNote: IPC-7351 Footprint Added.; DatasheetVersion: 1996; PackageVersion: 1998; PackageReference: 751-05; Publisher: Altium Limited; PackageDescription: 8-Pin Small Outline Integrated Circuit 1.27 mm Pitch; Code_JEDEC: MS-012-AA; Code_IPC: SOIC127P600-8; ComponentLink1Description: Manufacturer Link; ComponentLink1URL: http://www.onsemi.com/site/products/taxonomy/0,4438,503,00.html; ComponentLink2Description: Datasheet; ComponentLink2URL: http://www.onsemi.com/pub/Collateral/MC34063A-D.PDF
footprint SO8-150
pins: 1 SW COLL, 2 SW EM, 3 TIM CAP, 4 GND (power), 5 IN- (in), 6 VCC (power), 7 IPK, 8 DRC (oc)

## MC34063AD
designator U?
DC-to-DC Converter Control Circuit; Published: 15-Apr-2002; LatestRevisionDate: 13-Apr-2006; LatestRevisionNote: IPC-7351 Footprint Added.; DatasheetVersion: 1996; PackageVersion: 1998; PackageReference: 751-05; Publisher: Altium Limited; PackageDescription: 8-Pin Small Outline Integrated Circuit 1.27 mm Pitch; Code_JEDEC: MS-012-AA; Code_IPC: SOIC127P600-8; ComponentLink1Description: Manufacturer Link; ComponentLink1URL: http://www.onsemi.com/site/products/taxonomy/0,4438,503,00.html; ComponentLink2Description: Datasheet; ComponentLink2URL: http://www.onsemi.com/pub/Collateral/MC34063A-D.PDF
footprint SO8-150
pins: 1 SW COLL, 2 SW EM, 3 TIM CAP, 4 GND (power), 5 IN- (in), 6 VCC (power), 7 IPK, 8 DRV COLL (oc)

## MCP1640BT-I/CHY
designator U?
Start-up Synchronous Boost Regulator with True Output Disconnect or Input / Output Bypass Option, 350 mA, Input Voltage 0.65 to 5.5 V, Output Voltage 2.0 to 5.5 V, -40 to 85 degC, 6-pin SOT-23 (CHY6), Tape and Reel; Manufacturer: Microchip; DatasheetVersion: Rev. B; PackageVersion: C04-028B; PackageReference: SOT-23-CHY6; PackageDescription: 6-Lead Plastic Small Outline Transistor, 2.9 x 1.55 mm Body, 0.95 mm Pitch; Supplier 1: Digi-Key; Supplier Part Number 1: MCP1640BT-I/CHYTR-ND; Supplier 2: Digi-Key; Supplier Part Number 2: MCP1640BT-I/CHYCT-ND; Supplier 3: Digi-Key; Supplier Part Number 3: MCP1640BT-I/CHYDKR-ND; Supplier 4: Farnell; Supplier Part Number 4: 1800207; Supplier 5: Newark; Supplier Part Number 5: 73R3625; Supplier 6: Newark; Supplier Part Number 6: 24R6820; Supplier 7: Mouser; Supplier Part Number 7: 579-MCP1640BT-I/CHY; Mounting Technology: Surface Mount; PartNumber: MCP1640BT-I/CHY; ComponentLink1Description: Manufacturer URL; ComponentLink1URL: http://www.microchip.com; ComponentLink2Description: Datasheet; ComponentLink2URL: http://ww1.microchip.com/downloads/en/DeviceDoc/22234B.pdf; ComponentLink3Description: Package Specification; ComponentLink3URL: http://www.microchip.com/stellent/groups/techpub_sg/documents/packagingspec/en012702.pdf; ComponentLink4Description: Product URL; ComponentLink4URL: http://www.microchip.com/MCP1640
footprint SOT23-6
pins: 1 SW (power) "Switch Node, Boost Inductor Input Pin", 2 GND (power) "Ground Pin", 3 EN (in) "Enable Control Input Pin", 4 FB (in) "Feedback Voltage Pin", 5 VOUT (power) "Output Voltage Pin", 6 VIN (power) "Input Voltage Pin"

## MDK70WV133-WCT
designator X?
Value: *
footprint F12A-50S-0.5SH
pins: 0 pad, 1 VLED_A, 2 VLED_A, 3 VLED_K, 4 VLED_K, 5 GND, 6 VCOM, 7 DVDD, 8 MODE, 9 DE, 10 VSYNC(VSD), 11 HSYNC(HSD), 12 B7, 13 B6, 14 B5, 15 B4, 16 B3, 17 B2, 18 B1, 19 B0, 20 G7, 21 G6, 22 G5, 23 G4, 24 G3, 25 G2, 26 G1, 27 G0, 28 R7, 29 R6, 30 R5, 31 R4, 32 R3, 33 R2, 34 R1, 35 R0, 36 GND, 37 DCLK, 38 GND, 39 SHLR, 40 UPDN, 41 VDDG(VGH), 42 VEEG(VGL), 43 AVDD, 44 RSTB, 45 NC, 46 VCOM, 47 DITH, 48 GND, 49 NC, 50 NC

## MMSZ5234BT1G
designator D?
Zener 6.2v; Published: 17-Sep-2003; LatestRevisionDate: 12-Dec-2006; LatestRevisionNote: IPC-7351 Footprint Added.; DatasheetVersion: 4-Mar-2002; PackageVersion: May-1999; PackageReference: SOT23; Publisher: Altium Limited; PackageDescription: 3-Pin SOT-23 Package 0.95 mm Pitch, 2.3 mm Lead Span; ComponentLink1Description: Manufacturer Link; ComponentLink1URL: http://www.semiconductors.philips.com/; ComponentLink2Description: Datasheet; ComponentLink2URL: http://www.semiconductors.philips.com/acrobat/datasheets/BAT54_SERIES_4.pdf
footprint SOD123 (SOD-123; 2 Leads; Body 2.7 x 1.6 mm, (LxW))
pins: 1 A, 2 K

## MMSZ5250BT1G
designator D?
Zener 6.2v; Published: 17-Sep-2003; LatestRevisionDate: 12-Dec-2006; LatestRevisionNote: IPC-7351 Footprint Added.; DatasheetVersion: 4-Mar-2002; PackageVersion: May-1999; PackageReference: SOT23; Publisher: Altium Limited; PackageDescription: 3-Pin SOT-23 Package 0.95 mm Pitch, 2.3 mm Lead Span; ComponentLink1Description: Manufacturer Link; ComponentLink1URL: http://www.semiconductors.philips.com/; ComponentLink2Description: Datasheet; ComponentLink2URL: http://www.semiconductors.philips.com/acrobat/datasheets/BAT54_SERIES_4.pdf
footprint SOD123 (SOD-123; 2 Leads; Body 2.7 x 1.6 mm, (LxW))
pins: 1 A, 2 K

## MOLEX-500901-0801
designator X?
footprint MOLEX-5009010801
pins: 1 DTA2, 2 CD/DTA3, 3 CMD, 4 VDD, 5 CLK, 6 VSS, 7 DAT0, 8 DAT1, 9 SWITCH, 10 case, 11 SWITCH, 12 case

## MOLEX-502774-0891
designator X?
footprint Molex-5027740891 (Molex MicroSD SMD)
pins: 1 DTA2, 2 CD/DTA3, 3 CMD, 4 VDD, 5 CLK, 6 VSS, 7 DAT0, 8 DAT1, 9 case, 10 case, 11 SWITCH, 12 case, 13 case, 14 case

## MP1542
designator U?
700KHz/1.3MHz Boost Converter
footprint MSOP-8
pins: 1 COMP (power), 2 FB (power), 3 EN (in), 4 GND (power), 5 SW (power), 6 IN, 7 FSEL, 8 SS

## MT3608
designator U?, comment MT3608 / SDB628
High Efficiency 1.2MHz  2A Step Up Converter; Published: 29-Jan-2009; DatasheetVersion: revA, Aug-2007; PackageVersion: revAW, Oct-2008; PackageReference: SOT-23-OT5; Publisher: Altium Limited; PackageDescription: 5-Lead Plastic Small Outline Transistor (OT) [SOT-23]; Code_IPC: SOT23-5; ComponentLink1Description: Manufacturer Link; ComponentLink1URL: http://www.microchip.com; ComponentLink2Description: Datasheet; ComponentLink2URL: http://ww1.microchip.com/downloads/en/DeviceDoc/22070a.pdf; ComponentLink3Description: Packaging Specification; ComponentLink3URL: http://ww1.microchip.com/downloads/en/PackagingSpec/00049AW.pdf
footprint SOT23-6
pins: 1 SW (power), 2 GND (power), 3 FB (power), 4 ~{EN} (in), 5 VIN (power)

## NCN4555MNG
designator U?
1.8 / 3 V SIM Card Power Supply and Level Shifter, 1.6 to 5.5 V, -40 to 85 degC, 16-Pin QFN, Pb-Free, Tube; Manufacturer: On Semiconductor; fClock Max (MHz): 5; VCC Max (V): 5.5; VCC Min (V): 1.6; DatasheetVersion: Rev. 3; PackageVersion: Rev. O, 09/2004; PackageReference: QFN-16-488AK-01; PackageDescription: 16-Pin Quad Flat No-Lead, Body 3 x 3 mm, Pitch 0.5 mm; Supplier 1: Digi-Key; Supplier Part Number 1: NCN4555MNG-ND; Supplier 2: Mouser; Supplier Part Number 2: 863-NCN4555MNG; Packing: Tube; RoHS: TRUE; Mounting Technology: Surface Mount; PartNumber: NCN4555MNG; ComponentLink1Description: Manufacturer URL; ComponentLink1URL: http://www.onsemi.com/; ComponentLink2Description: Datasheet; ComponentLink2URL: http://www.onsemi.cn/pub_link/Collateral/NCN4555-D.PDF; ComponentLink3Description: Package Specification; ComponentLink3URL: http://www.onsemi.cn/pub_link/Collateral/488AK.PDF
footprint QFN16D (QFN, 16-Leads, Body 4,2x4,2mm (max), Pitch 0,50mm, IPC Low Density)
pins: 1 ~{STOP} (in) "Power Down Mode pin: S\T\O\P\ = Low-->Low current shutdown mode activated S\T\O\P\ = High-->Normal Operation A Low level on this pin resets the SIM interface, switching off the SIM_VCC.", 2 MOD_VCC (in) "The signal present on this pin programs the SIM_VCC value:MOD_VCC = Low-->SIM_VCC = 1.8 V MOD_VCC = High-->SIM_VCC = 3 V", 3 VDD (power) "This pin is connected to the system controller power supply. It configures the level shifter input stage to accept the signals coming from the microprocessor. A 0.1 uF capacitor shall be used to bypass the power supply (See Datasheet)", 4 NC "No Connect", 5 VBAT (power) "DC-DC converter supply input. The input voltage ranges from 2.7V up to 5.5V. This pin has to be bypass by a 0.1  uF capacitor.", 6 NC "No Connect", 7 SIM_VCC (power) "This pin is connected to the SIM card power supply pin. An internal LDO converter is programmable by the external MPU to supply either 1.8 V or 3.0 V output voltage. An external 1.0 uF minimum ceramic capacitor recommended (See Datasheet)", 8 SIM_I/O (io) "This pin handles the connection to the serial I/O of the card connector. A bidirectional level translator adapts the serial I/O signal between the card and the micro controller. A 14 kohm (typical) pullup resistor provides a (See Datasheet)", 9 SIM_RST (out) "This pin is connected to the RESET pin of the card connector. A level translator adapts the external Reset (RST) signal to the SIM card.", 10 GND (power) "This pin is the GROUND reference for the integrated circuit and associated signals. Care must be taken to avoid voltage spikes when the device operates in a normal operation.", 11 SIM_CLK (out) "This pin is connected to the CLOCK pin of the card connector. The CLOCK (CLK) signal comes from the external clock generator, the internal level shifter being used to adapt the voltage defined for the SIM_VCC.", 12 NC "No Connect", 13 CLK (in) "The clock signal, coming from the external controller, must have a Duty Cycle within the Min/Max values defined by the specification (typically 50%). The built-in level shifter translates the input signal to the externa(See Datasheet)", 14 RST (in) "The RESET signal present at this pin is connected to the SIM card through the internal level shifter which translates the level according to the SIM_VCC programmed value.", 15 I/O (io) "This pin is connected to an external microcontroller or cellular phone management unit. A bidirectional level translator adapts the serial I/O signal between the smart card and the external controller. A built-in constan(See Datasheet)", 16 NC "No Connect", 17 EP (power)

## NCP1450ASNxxT1G
designator U?
Start-up Synchronous Boost Regulator with True Output Disconnect or Input / Output Bypass Option, 350 mA, Input Voltage 0.65 to 5.5 V, Output Voltage 2.0 to 5.5 V; Manufacturer: Microchip; PartNumber: MCP1640BT-I/CHY; DatasheetVersion: Rev. B; PackageVersion: C04-028B; PackageReference: SOT-23-CHY6; PackageDescription: 6-Lead Plastic Small Outline Transistor, 2.9 x 1.55 mm Body, 0.95 mm Pitch; Supplier 1: Digi-Key; Supplier Part Number 1: MCP1640BT-I/CHYTR-ND; Supplier 2: Digi-Key; Supplier Part Number 2: MCP1640BT-I/CHYCT-ND; Supplier 3: Digi-Key; Supplier Part Number 3: MCP1640BT-I/CHYDKR-ND; Supplier 4: Farnell; Supplier Part Number 4: 1800207; Supplier 5: Newark; Supplier Part Number 5: 73R3625; Supplier 6: Newark; Supplier Part Number 6: 24R6820; Supplier 7: Mouser; Supplier Part Number 7: 579-MCP1640BT-I/CHY; Mounting Technology: Surface Mount; ComponentLink1Description: Manufacturer URL; ComponentLink1URL: http://www.microchip.com; ComponentLink2Description: Datasheet; ComponentLink2URL: http://ww1.microchip.com/downloads/en/DeviceDoc/22234B.pdf; ComponentLink3Description: Package Specification; ComponentLink3URL: http://www.microchip.com/stellent/groups/techpub_sg/documents/packagingspec/en012702.pdf; ComponentLink4Description: Product URL; ComponentLink4URL: http://www.microchip.com/MCP1640
footprint SOT23-5
pins: 1 CE (in) "Enable Control Input Pin", 2 OUT (power) "Output Voltage Pin", 3 NC, 4 GND (power) "Ground Pin", 5 EXT (out) "External Transistor Drive PIN"

## OPA244
designator U?
Micro Amplifier
footprint SOT23-5D (SOT23, 5-Leads, Body 2.9x1.3mm, Pitch 0.95mm, Lead Span 2.5mm)
pins: 1 OUT (out), 2 V- (power), 3 IN+ (in), 4 IN- (in), 5 V+ (power)

## PC817A
designator U?
Optocoupler
footprint DIP4 (DIP-4)
pins: 1 A, 2 C, 3 C, 4 C

## PD15-22B-TR8
designator D?
Published: 8-Jun-2000; LatestRevisionDate: 17-Jul-2002; LatestRevisionNote: Re-released for DXP Platform.; DatasheetDocument: Dec-1997; PackageReference: D-64; Publisher: Altium Limited; ComponentLink1Description: Manufacturer Link; ComponentLink1URL: http://www.irf.com/; ComponentLink2Description: Datasheet; ComponentLink2URL: http://www.irf.com/product-info/datasheets/data/10mq040n.pdf
footprint R3216_LEDDBL (1206)
footprint LED3W (Footprint not found)
pins: 1 K, 2 A, 3 A, 4 K

## RES
designator R?  value 47k  (hidden comment: RES)
Resistor; Manufacturer: Generic Components; Class I: Passive; Published: 8-Jun-2000; Revision: July-2002: Re-released for DXP Platform.; Publisher: Altium Limited; Class II: Resistor; Type: *
footprint R2012_RES (SMD RES-0805)
footprint R1608_RES (SMD RES-0603)
footprint R1005_RES (SMD RES-0402)
pins: 1, 2
2 alternate drawings of the same symbol

## RESx4
designator R?
Chip Resistor Array
footprint CAY10X4 (Footprint not found)
pins: 1, 2, 3, 4, 5, 6, 7, 8

## RFM95W-868S2
designator U?
footprint RFM9X (Footprint not found)
pins: 1 GND, 2 SPI_MISO (out), 3 SPI_MOSI (in), 4 SPI_CLK (in), 5 SPI_NSS (in), 6 ~{RES} (in), 7 DIO5 (io), 8 GND, 9 ANT, 10 GND, 11 DIO3 (io), 12 DIO4 (io), 13 1.8-3.3V, 14 DIO0|INT (io), 15 DIO1 (io), 16 DIO2 (io)

## RN2483
designator U?
footprint RN2483
pins: 1 GND, 2 UART_RTS (out), 3 UART_CTS (in), 4 RESERVED (out), 5 RESERVED, 6 UART_TX (out), 7 UART_RX (in), 8 GND, 9 GPIO13 (io), 10 GPIO12 (io), 11 GND, 12 2.1-3.6V, 13 GPIO11 (io), 14 GPIO10 (io), 15 NC, 16 NC, 17 NC, 18 NC, 19 NC, 20 GND, 21 GND, 22 GND, 23 RFH868, 24 GND, 25 RFL434, 26 GND, 27 GND, 28 GND, 29 NC, 30 CLK/PGC_INT, 31 DTA/PGD_INT, 32 ~{RES} (in), 33 GND, 34 2.1-3.6V, 35 GPIO0 (io), 36 GPIO1 (io), 37 GPIO2 (io), 38 GPIO3 (io), 39 GPIO4 (io), 40 GPIO5 (io), 41 GND, 42 NC, 43 GPIO6 (io), 44 GPIO7 (io), 45 GPIO8 (io), 46 GPIO9 (io), 47 GND

## SD-MMC
designator MMC?
footprint SD-MMC
pins: 1 CS (in), 2 DI, 3 GND (power), 4 V3, 5 SCK, 6 GND, 7 DO, 8 NC, 9 NC, 10 CD, 11 WP
text: SD memory card

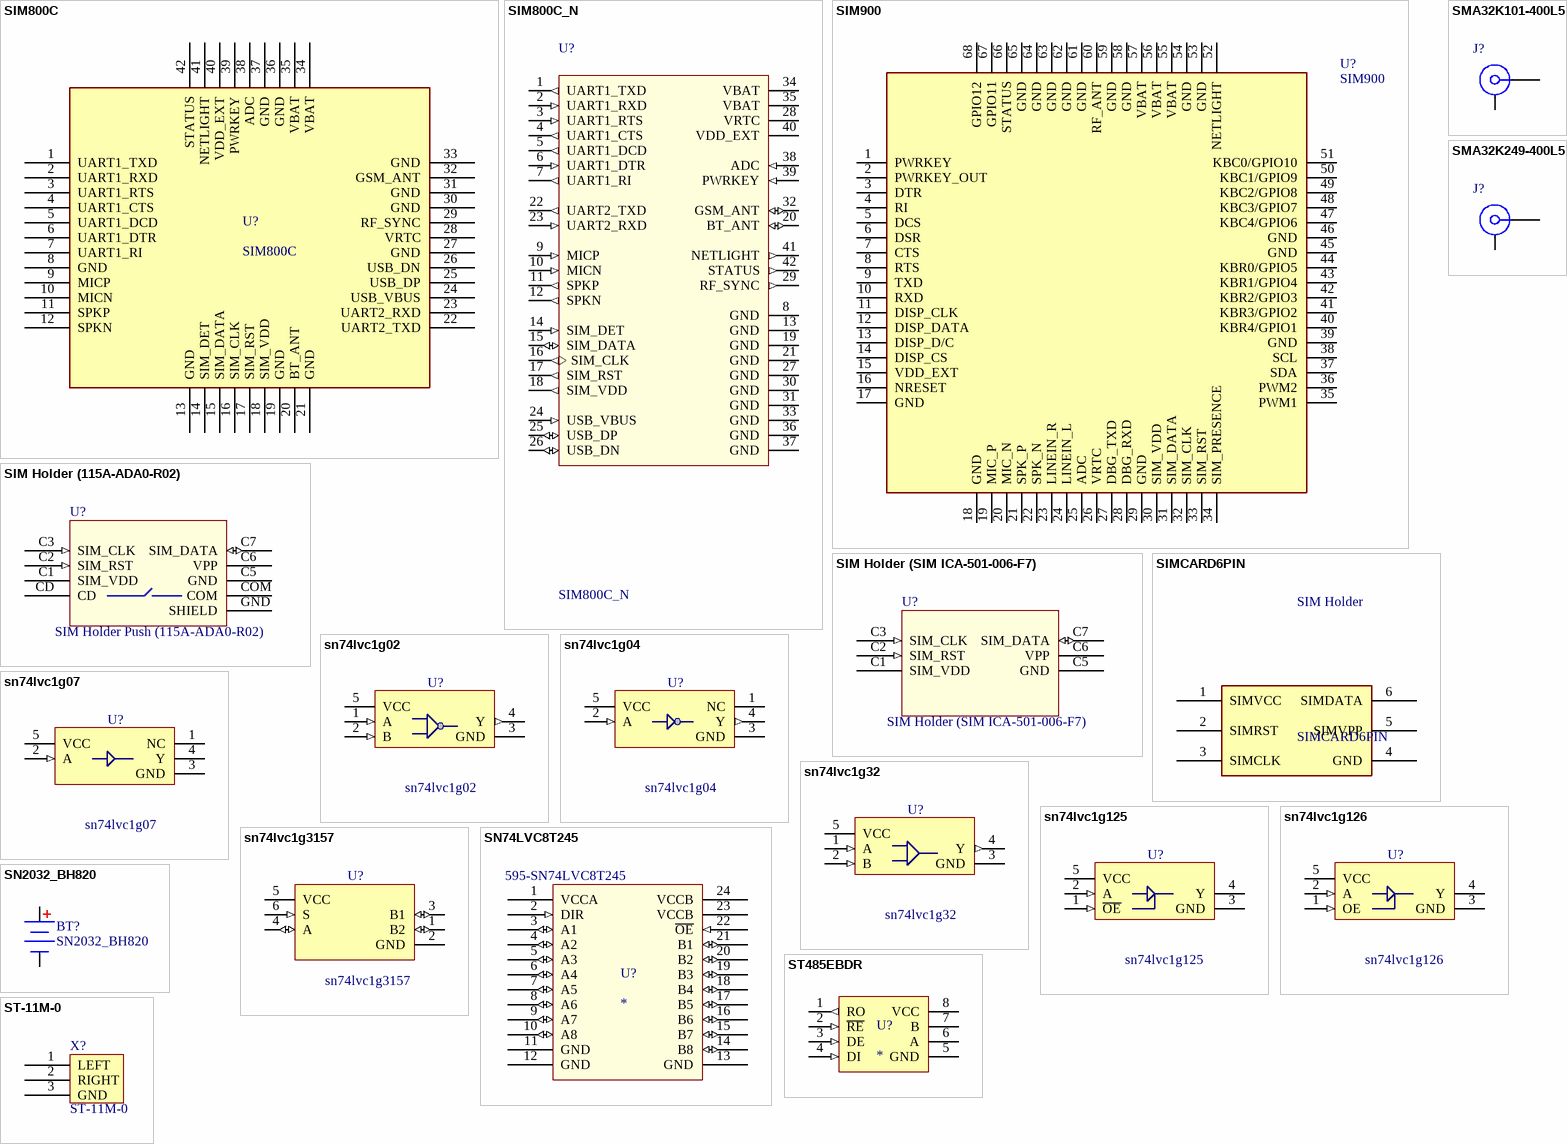
[diagram p4: symbols SIM800C to ST-11M-0]

## SIM800C
designator U?
Module: GSM/Bluetooth; GPRS; 2G; 1800MHz, 900MHz; 85.6kbps; SMD
footprint SIM800C
pins: 1 UART1_TXD, 2 UART1_RXD, 3 UART1_RTS, 4 UART1_CTS, 5 UART1_DCD, 6 UART1_DTR, 7 UART1_RI, 8 GND, 9 MICP, 10 MICN, 11 SPKP, 12 SPKN, 13 GND, 14 SIM_DET, 15 SIM_DATA, 16 SIM_CLK, 17 SIM_RST, 18 SIM_VDD, 19 GND, 20 BT_ANT, 21 GND, 22 UART2_TXD, 23 UART2_RXD, 24 USB_VBUS, 25 USB_DP, 26 USB_DN, 27 GND, 28 VRTC, 29 RF_SYNC, 30 GND, 31 GND, 32 GSM_ANT, 33 GND, 34 VBAT, 35 VBAT, 36 GND, 37 GND, 38 ADC, 39 PWRKEY, 40 VDD_EXT, 41 NETLIGHT, 42 STATUS

## SIM800C_N
designator U?
Module: GSM/Bluetooth; GPRS; 2G; 1800MHz, 900MHz; 85.6kbps; SMD
footprint SIM800C
pins: 1 UART1_TXD (out), 2 UART1_RXD (in), 3 UART1_RTS (in), 4 UART1_CTS (out), 5 UART1_DCD (out), 6 UART1_DTR (in), 7 UART1_RI (out), 8 GND (power), 9 MICP (in), 10 MICN (in), 11 SPKP (out), 12 SPKN (out), 13 GND (power), 14 SIM_DET (in), 15 SIM_DATA (io), 16 SIM_CLK (out), 17 SIM_RST (out), 18 SIM_VDD (out), 19 GND (power), 20 BT_ANT (io), 21 GND (power), 22 UART2_TXD (out), 23 UART2_RXD (in), 24 USB_VBUS (in), 25 USB_DP (io), 26 USB_DN (io), 27 GND (power), 28 VRTC (power), 29 RF_SYNC (out), 30 GND (power), 31 GND (power), 32 GSM_ANT (io), 33 GND (power), 34 VBAT (power), 35 VBAT (power), 36 GND (power), 37 GND (power), 38 ADC (in), 39 PWRKEY (in), 40 VDD_EXT (power), 41 NETLIGHT (out), 42 STATUS (out)

## SIM900
designator U?
footprint SIM900
pins: 1 PWRKEY, 2 PWRKEY_OUT, 3 DTR, 4 RI, 5 DCS, 6 DSR, 7 CTS, 8 RTS, 9 TXD, 10 RXD, 11 DISP_CLK, 12 DISP_DATA, 13 DISP_D/C, 14 DISP_CS, 15 VDD_EXT, 16 NRESET, 17 GND, 18 GND, 19 MIC_P, 20 MIC_N, 21 SPK_P, 22 SPK_N, 23 LINEIN_R, 24 LINEIN_L, 25 ADC, 26 VRTC, 27 DBG_TXD, 28 DBG_RXD, 29 GND, 30 SIM_VDD, 31 SIM_DATA, 32 SIM_CLK, 33 SIM_RST, 34 SIM_PRESENCE, 35 PWM1, 36 PWM2, 37 SDA, 38 SCL, 39 GND, 40 KBR4/GPIO1, 41 KBR3/GPIO2, 42 KBR2/GPIO3, 43 KBR1/GPIO4, 44 KBR0/GPIO5, 45 GND, 46 GND, 47 KBC4/GPIO6, 48 KBC3/GPIO7, 49 KBC2/GPIO8, 50 KBC1/GPIO9, 51 KBC0/GPIO10, 52 NETLIGHT, 53 GND, 54 GND, 55 VBAT, 56 VBAT, 57 VBAT, 58 GND, 59 GND, 60 RF_ANT, 61 GND, 62 GND, 63 GND, 64 GND, 65 GND, 66 STATUS, 67 GPIO11, 68 GPIO12

## SIM Holder (115A-ADA0-R02)
designator U?, comment SIM Holder Push (115A-ADA0-R02)
footprint 115A-ADA0-R02 (Attend SIM-Holder SMD)
pins: C1 SIM_VDD, C2 SIM_RST (in), C3 SIM_CLK (in), C5 GND, C6 VPP (power), C7 SIM_DATA (io), CD, COM, GND SHIELD

## SIM Holder (SIM ICA-501-006-F7)
designator U?
footprint SIM_HOLDER_ICA-501-006-F7
pins: C1 SIM_VDD, C2 SIM_RST (in), C3 SIM_CLK (in), C5 GND, C6 VPP (power), C7 SIM_DATA (io)

## SIMCARD6PIN
designator SIM Holder
footprint SIMCARD6pin
footprint SIMCARD_6pin
pins: 1 SIMVCC, 2 SIMRST, 3 SIMCLK, 4 GND, 5 SIMVPP, 6 SIMDATA

## SMA32K101-400L5
designator J?
SMA Straight Jack, Up to 18 GHz, -55 to 155 degC; PartNumber: 32K101-400L5; Design Note: Footprint in library is a generic example - only application specific footprint delivers High Performance; DatasheetVersion: a00; PackageVersion: a00; PackageReference: 32K101-400L5; PackageDescription: SMA Straight Jack, 6.35 x 6.35 x 9.5 mm; Mounting Technology: Through Hole; ComponentLink1Description: Manufacturer URL; ComponentLink1URL: http://www.rosenberger.de; ComponentLink2Description: Datasheet; ComponentLink2URL: http://rosenberger.de/ok/images/documents/db/32K101-400L5.pdf; ComponentLink3Description: Package Specification; ComponentLink3URL: http://rosenberger.de/ok/images/documents/db/32K101-400L5.pdf; ComponentLink4Description: Series Overview / Design Note; ComponentLink4URL: http://rosenberger.de/ok/images/documents/spez/32.pdf; ComponentLink5Description: Webshop / RFQ; ComponentLink5URL: http://www.rosenberger.com/en/contact/sales/
footprint ROS-32K101-400L5_V (SMA Straight Jack, 6.35x6.35x9.5mm, Rosenberger Recommended)
pins: 1, MH

## SMA32K249-400L5
designator J?
SMA Right Angle Jack, Up to 18 GHz, -65 to 165 degC; PartNumber: 32K249-400L5; Design Note: Footprint in library is a generic example - only application specific footprint delivers High Performance; DatasheetVersion: b00; PackageVersion: b00; PackageReference: 32K249-400L5; PackageDescription: SMA Right Angle Jack, 14.8 x 6.35 x 9.7 mm; Mounting Technology: Through Hole; ComponentLink1Description: Manufacturer URL; ComponentLink1URL: http://www.rosenberger.de; ComponentLink2Description: Datasheet; ComponentLink2URL: http://rosenberger.de/ok/images/documents/db/32K249-400L5.pdf; ComponentLink3Description: Package Specification; ComponentLink3URL: http://rosenberger.de/ok/images/documents/db/32K249-400L5.pdf; ComponentLink4Description: Series Overview / Design Note; ComponentLink4URL: http://rosenberger.de/ok/images/documents/spez/32.pdf; ComponentLink5Description: Webshop / RFQ; ComponentLink5URL: http://www.rosenberger.com/en/contact/sales/
footprint ROS-32K249-400L5_V (SMA Right Angle Jack, 14.8x6.35x9.7mm, Rosenberger Recommended)
pins: 1, MH

## sn74lvc1g02
designator U?
NOR Gate; Published: 29-Jan-2009; DatasheetVersion: revA, Aug-2007; PackageVersion: revAW, Oct-2008; PackageReference: SOT-23-OT5; Publisher: Altium Limited; PackageDescription: 5-Lead Plastic Small Outline Transistor (OT) [SOT-23]; Code_IPC: SOT23-5; ComponentLink1Description: Manufacturer Link; ComponentLink1URL: http://www.microchip.com; ComponentLink2Description: Datasheet; ComponentLink2URL: http://ww1.microchip.com/downloads/en/DeviceDoc/22070a.pdf; ComponentLink3Description: Packaging Specification; ComponentLink3URL: http://ww1.microchip.com/downloads/en/PackagingSpec/00049AW.pdf
footprint SOT23-5
footprint SOT353 (SOT-353/SC-88A; 5 Leads; Body 2.2 x 2.2 mm, inc. leads (LxW max))
pins: 1 A (in), 2 B (in), 3 GND (power), 4 Y (out), 5 VCC (power)

## sn74lvc1g04
designator U?
Inverter Gate; Published: 29-Jan-2009; DatasheetVersion: revA, Aug-2007; PackageVersion: revAW, Oct-2008; PackageReference: SOT-23-OT5; Publisher: Altium Limited; PackageDescription: 5-Lead Plastic Small Outline Transistor (OT) [SOT-23]; Code_IPC: SOT23-5; ComponentLink1Description: Manufacturer Link; ComponentLink1URL: http://www.microchip.com; ComponentLink2Description: Datasheet; ComponentLink2URL: http://ww1.microchip.com/downloads/en/DeviceDoc/22070a.pdf; ComponentLink3Description: Packaging Specification; ComponentLink3URL: http://ww1.microchip.com/downloads/en/PackagingSpec/00049AW.pdf
footprint SOT23-5
footprint SOT353 (SOT-353/SC-88A; 5 Leads; Body 2.2 x 2.2 mm, inc. leads (LxW max))
pins: 1 NC, 2 A (in), 3 GND (power), 4 Y (out), 5 VCC (power)

## sn74lvc1g07
designator U?
Single Buffer/Driver With Open-Drain Output; Published: 29-Jan-2009; DatasheetVersion: revA, Aug-2007; PackageVersion: revAW, Oct-2008; PackageReference: SOT-23-OT5; Publisher: Altium Limited; PackageDescription: 5-Lead Plastic Small Outline Transistor (OT) [SOT-23]; Code_IPC: SOT23-5; ComponentLink1Description: Manufacturer Link; ComponentLink1URL: http://www.microchip.com; ComponentLink2Description: Datasheet; ComponentLink2URL: http://ww1.microchip.com/downloads/en/DeviceDoc/22070a.pdf; ComponentLink3Description: Packaging Specification; ComponentLink3URL: http://ww1.microchip.com/downloads/en/PackagingSpec/00049AW.pdf
footprint SOT23-5
footprint SOT353 (SOT-353/SC-88A; 5 Leads; Body 2.2 x 2.2 mm, inc. leads (LxW max))
pins: 1 NC, 2 A (in), 3 GND (power), 4 Y (oc), 5 VCC (power)

## sn74lvc1g32
designator U?
OR Gate; Published: 29-Jan-2009; DatasheetVersion: revA, Aug-2007; PackageVersion: revAW, Oct-2008; PackageReference: SOT-23-OT5; Publisher: Altium Limited; PackageDescription: 5-Lead Plastic Small Outline Transistor (OT) [SOT-23]; Code_IPC: SOT23-5; ComponentLink1Description: Manufacturer Link; ComponentLink1URL: http://www.microchip.com; ComponentLink2Description: Datasheet; ComponentLink2URL: http://ww1.microchip.com/downloads/en/DeviceDoc/22070a.pdf; ComponentLink3Description: Packaging Specification; ComponentLink3URL: http://ww1.microchip.com/downloads/en/PackagingSpec/00049AW.pdf
footprint SOT23-5
footprint SOT353 (SOT-353/SC-88A; 5 Leads; Body 2.2 x 2.2 mm, inc. leads (LxW max))
pins: 1 A (in), 2 B (in), 3 GND (power), 4 Y (out), 5 VCC (power)